# Altium schematic symbol library DiodsSymbol.SchLib: 2 symbols
Pins are listed as number, name and electrical type; pins without a type are passive.

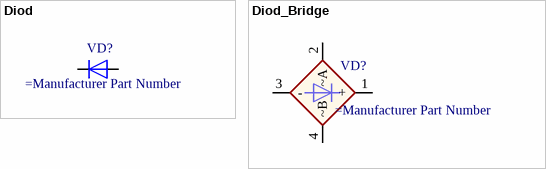
[diagram p0: symbols Diod to Diod_Bridge]

## Diod
designator VD?
Диод
pins: 1 K, 2 A

## Diod_Bridge
designator VD?
Диодный мост
pins: 1 +, 2 ~A, 3 -, 4 ~B